# Altium schematic symbol library PMSA003.SchLib: 1 symbol
Pins are listed as number, name and electrical type; pins without a type are passive.

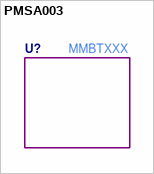
[diagram p0: symbol PMSA003]

## PMSA003
designator U?  Manufacturer Part Number: MMBTXXX  (hidden comment: *)